# Altium schematic symbol library Schurter.SchLib: 1 symbol
Pins are listed as number, name and electrical type; pins without a type are passive.

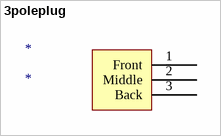
[diagram p0: symbol 3poleplug]

## 3poleplug
designator *
pins: 1 Front, 2 Middle, 3 Back